# Altium footprint library 292132-4.PcbLib: 1 footprints
Each footprint in its own frame and in the unit in brackets; x right, y up, seen from the top. Pads: shape width x height; smd on the part's side, far side on the other; paste and mask are expansions set on the pad; w line width, h text height; cw(c..) or ccw(c..) is an arc to the next point about the centre after c.
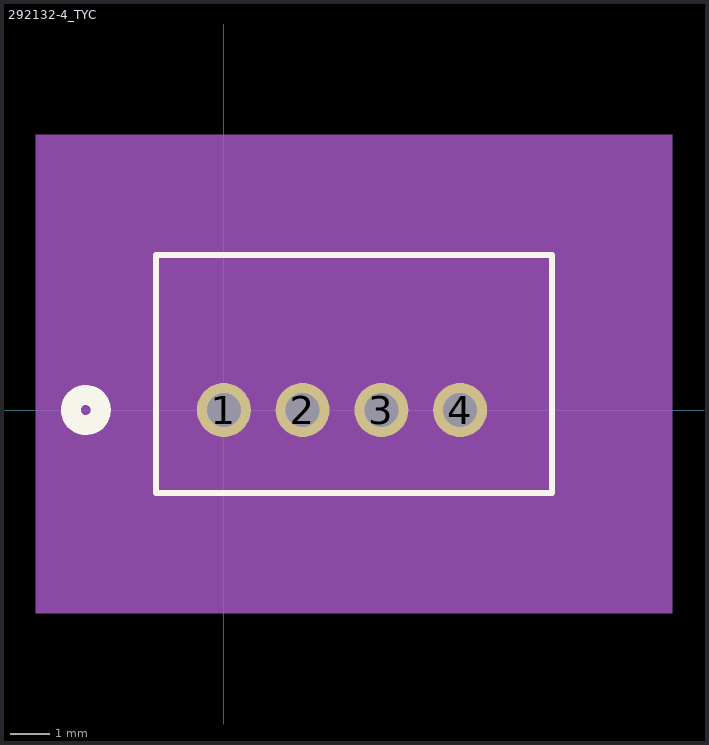
[diagram p0: the footprint, top view; thin cyan lines are the x and y axes]

## 292132-4_TYC [mil]
pads (4):
  round 54 hole 34 mask+0: 1(0,0) 2(78.74,0) 3(157.48,0) 4(236.22,0)
Top Overlay:
  circle w20: c-137.89,0 r15
  lines w6: -67.89,-83 -67.89,155 328.11,155 328.11,-83 -67.89,-83
Bottom Overlay:
  circle w20: c-137.89,0 r15
Mechanical 5:
  region: -187.89,275 448.11,275 448.11,-203 -187.89,-203
Mechanical 13:
  circle w20: c0,-75 r15
  lines w1: -62.89,-78 -62.89,150 323.11,150 323.11,-78 -62.89,-78
Mechanical 15:
  region: 333.11,160 -72.89,160 -72.89,-88 333.11,-88
  lines w6: -72.89,-88 333.11,-88 333.11,160 -72.89,160 -72.89,-88
3D body: height 10, standoff 0, extent 0,0 10,10
3D body "292132-4.stp": height 267.72, standoff -125.98, extent -65,-85 320.83,143.35